# EAGLE library part WE-TVS_82401444_WE-TVS_82401444 (library videobrick_alpha4_eagle_footprints)
TVS Diode Array WE-TVS, Super Speed Serie - Low capazity - No leakage current - Low clamping voltage - high ESD voltage protection -- SATA -- DisplayPort -- DVI -- HDMI
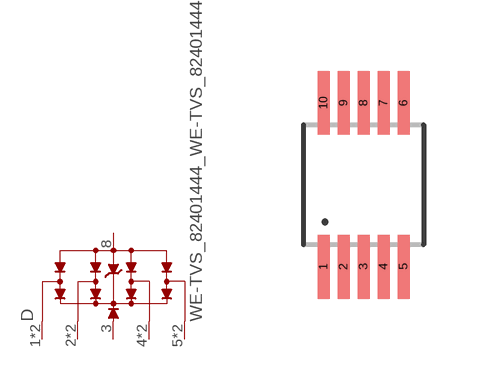
[diagram p4: symbol with the pads of WE-TVS_82401444_WE-TVS_MSOP-10L; footprint WE-TVS_82401444_WE-TVS_MSOP-10L]

Designator prefix D

## WE-TVS_82401444_WE-TVS_82401444 (MPN: 82401444; OC_FARNELL: 1825863; OC_NEWARK: 79R6952; PACKAGE: MSOP-10L; SUPPLIER: Wuerth Elektronik)  [WE-TVS_82401444_WE-TVS_MSOP-10L]
1  1  pas
2  2  pas
3  VDD  pwr
4  3  pas
5  4  pas
6  4  pas
7  3  pas
8  GND  pwr
9  2  pas
10  1  pas

## Footprint WE-TVS_82401444_WE-TVS_MSOP-10L (pad centres in mm)
TVS Diode Array WE-TVS
smd 0.3 x 1.6: 1 -1,-2.05; 2 -0.5,-2.05; 3 0,-2.05; 4 0.5,-2.05; 5 1,-2.05; 6 1,2.05; 7 0.5,2.05; 8 0,2.05; 9 -0.5,2.05; 10 -1,2.05